# Altium schematic symbol library Schlib1.SchLib: 1 symbol
Pins are listed as number, name and electrical type; pins without a type are passive.

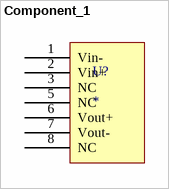
[diagram p0: symbol Component_1]

## Component_1
designator U?
ITX2405S
footprint ITX2405S
footprint ITX2405S
pins: 1 Vin-, 2 Vin+, 3 NC, 5 NC, 6 Vout+, 7 Vout-, 8 NC